# EAGLE library part SAMR21E (library chips)
SAMR21E Cortex-M/802.15.4 SoC
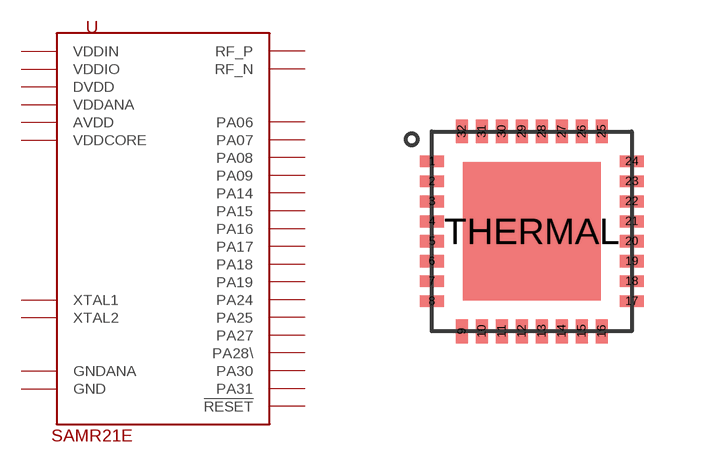
[diagram p85: symbol with the pads of UQFN-32; footprint UQFN-32]

Designator prefix U

## SAMR21E (DIGIKEY: 1611-ATSAMR21E18A-MUTCT-ND; MANUFACTURER: ATMEL; MPN: SAMR21E18A)  [UQFN-32]
1  XTAL2
2  XTAL1
3  GNDANA
4  VDDANA
5  AVDD
6  GNDANA
7  PA06
8  PA07
9  PA08
10  PA09
11  GNDANA
12  RF_P
13  RF_N
14  GNDANA
15  PA14
16  PA15
17  PA16
18  PA17
19  PA18
20  PA19
21  DVDD
22  PA24
23  PA25
24  VDDIO
25  PA27
26  !RESET
27  PA28\
28  GND
29  VDDCORE
30  VDDIN
31  PA30
32  PA31
THERMAL  GND

## Footprint UQFN-32 (pad centres in mm)
smd 0.6 x 0.3: 1 -2.5,1.75; 2 -2.5,1.25; 3 -2.5,0.75; 4 -2.5,0.25; 5 -2.5,-0.25; 6 -2.5,-0.75; 7 -2.5,-1.25; 8 -2.5,-1.75; 17 2.5,-1.75; 18 2.5,-1.25; 19 2.5,-0.75; 20 2.5,-0.25; 21 2.5,0.25; 22 2.5,0.75; 23 2.5,1.25; 24 2.5,1.75
smd 0.3 x 0.6: 9 -1.75,-2.5; 10 -1.25,-2.5; 11 -0.75,-2.5; 12 -0.25,-2.5; 13 0.25,-2.5; 14 0.75,-2.5; 15 1.25,-2.5; 16 1.75,-2.5; 25 1.75,2.5; 26 1.25,2.5; 27 0.75,2.5; 28 0.25,2.5; 29 -0.25,2.5; 30 -0.75,2.5; 31 -1.25,2.5; 32 -1.75,2.5
smd 3.45 x 3.45: THERMAL 0,0